# Altium footprint library Buttons.PcbLib: 2 footprints
Each footprint in its own frame and in the unit in brackets; x right, y up, seen from the top. Pads: shape width x height; smd on the part's side, far side on the other; paste and mask are expansions set on the pad; w line width, h text height; cw(c..) or ccw(c..) is an arc to the next point about the centre after c.
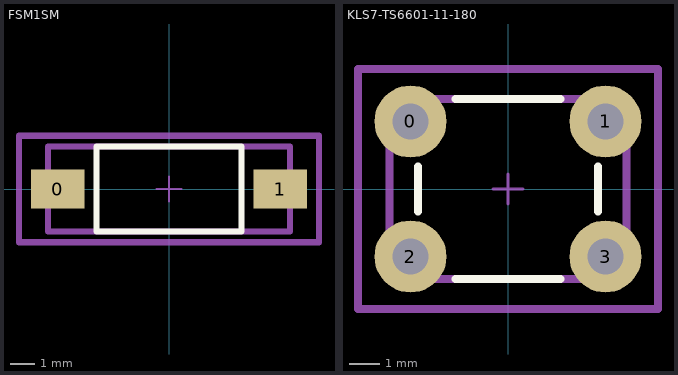
[diagram p0: the footprints below, top view; thin cyan lines are the x and y axes]

## FSM1SM [mm]
height 4.8
pads (2):
  rect 2.2x1.6 smd: 0(-4.6,0) 1(4.6,0)
Top Overlay:
  lines w0.254: -3,-1.75 3,-1.75 3,1.75 -3,1.75 -3,-1.75
Mechanical 13:
  lines w0.254: -5,-1.75 5,-1.75 5,1.75 -5,1.75 -5,-1.75
Mechanical 15:
  lines w0.1: -0.5,0 0.5,0 ; 0,-0.5 0,0.5
  lines w0.254: -6.2,-2.2 6.2,-2.2 6.2,2.2 -6.2,2.2 -6.2,-2.2
3D body "92f2863_fsmsm.stp": height 4.4, standoff -0.02, extent -4.985,-1.75 4.985,1.75

## KLS7-TS6601-11-180 [mm]
height 11
pads (4):
  round 2.4 hole 1.2: 0(-3.25,2.25) 1(3.25,2.25) 2(-3.25,-2.25) 3(3.25,-2.25)
Top Overlay:
  lines w0.254: -3,-0.75 -3,0.75 ; -1.75,-3 1.75,-3 ; -1.75,3 1.75,3 ; 3,-0.75 3,0.75
Mechanical 13:
  lines w0.254: -3.95,-3 3.95,-3 3.95,3 -3.95,3 -3.95,-3
Mechanical 15:
  lines w0.1: -0.5,0 0.5,0 ; 0,-0.5 0,0.5
  lines w0.254: -5,-4 5,-4 5,4 -5,4 -5,-4
3D body "User Library-KLS7-TS6601-7.STEP": height 9.14, standoff -3.36, extent -3.95,-3 3.951,3